# EAGLE library part TAIMAGRPJ-003TC1 (library snow)
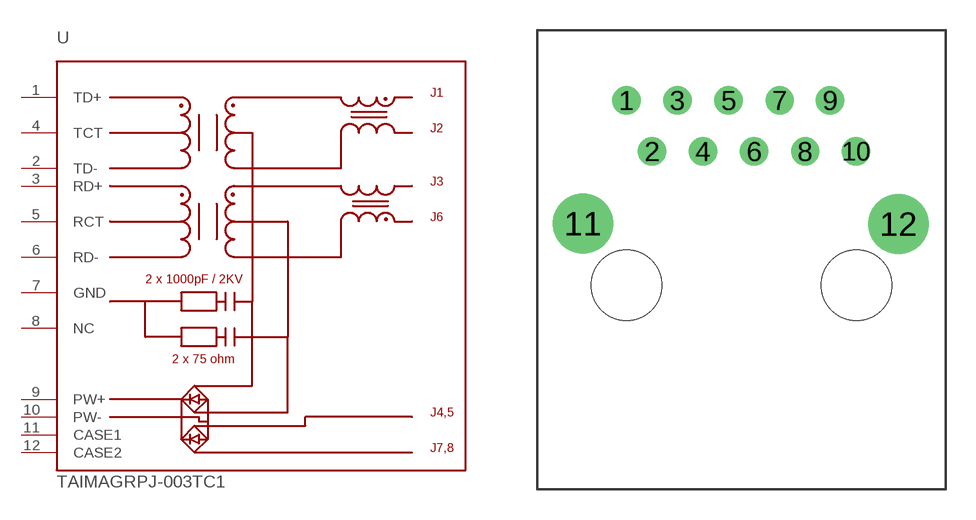
[diagram p1: symbol with the pads of TAIMAGRJP-003TC1; footprint TAIMAGRJP-003TC1]

Designator prefix -

## TAIMAGRPJ-003TC1  [TAIMAGRJP-003TC1]
1  TD+
2  TD-
3  RD+
4  TCT
5  RCT
6  RD-
7  GND  pwr
8  NC  nc
9  PW+  pwr
10  PW-  pwr
11  CASE1  pwr
12  CASE2  pwr

## Footprint TAIMAGRJP-003TC1 (pad centres in mm)
drill 0.9 round: 1 -5.72,9.2; 2 -4.45,6.66; 3 -3.18,9.2; 4 -1.91,6.66; 5 -0.64,9.2; 6 0.63,6.66; 7 1.9,9.2; 8 3.17,6.66; 9 4.4,9.2; 10 5.7,6.66
drill 2 round: 11 -7.88,3.07; 12 7.81,3.05
hole 3.5 at -5.72,0
hole 3.5 at 5.72,0